# EAGLE library part LT6600* (library linear-technology-3)
Very Low Noise, Differential Amplifier and Lowpass Filter
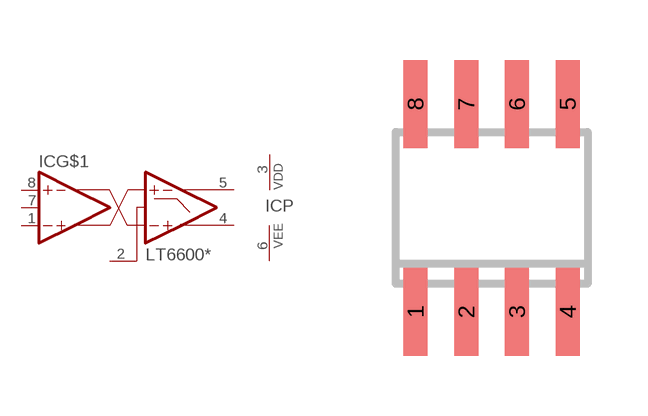
[diagram p31: symbol with the pads of SO08; footprint SO08]

Designator prefix IC; gates G$1=LT6600 P=PWRN-D-E

## LT6600CS8, LT6600IS8  [SO08]
1  G$1:-IN  in
2  G$1:OCM  in
3  P:VDD  pwr
4  G$1:+OUT  out
5  G$1:-OUT  out
6  P:VEE  pwr
7  G$1:MID  pas
8  G$1:+IN  in

## Footprint SO08 (pad centres in mm)
Small Outline IC
smd 0.6 x 2.2: 1 -1.905,-2.6; 2 -0.635,-2.6; 3 0.635,-2.6; 4 1.905,-2.6; 5 1.905,2.6; 6 0.635,2.6; 7 -0.635,2.6; 8 -1.905,2.6